# Altium footprint library freescale.PCBLIB: 12 footprints (part 2 of 2)
Each footprint in its own frame and in the unit in brackets; x right, y up, seen from the top. Pads: shape width x height; smd on the part's side, far side on the other; paste and mask are expansions set on the pad; w line width, h text height; cw(c..) or ccw(c..) is an arc to the next point about the centre after c.
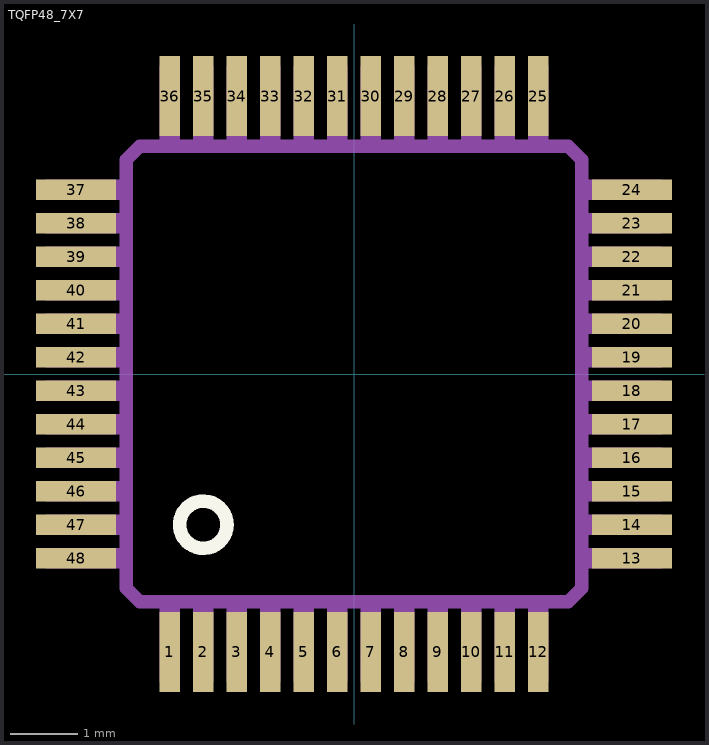
[diagram p1: the footprint, top view; thin cyan lines are the x and y axes]

## TQFP48_7X7 [mm]
pads (48):
  rect 0.3x1.2 smd: 1(-2.75,-4.15) 2(-2.25,-4.15) 3(-1.75,-4.15) 4(-1.25,-4.15) 5(-0.75,-4.15) 6(-0.25,-4.15) 7(0.25,-4.15) 8(0.75,-4.15) 9(1.25,-4.15) 10(1.75,-4.15) 11(2.25,-4.15) 12(2.75,-4.15) 25(2.75,4.15) 26(2.25,4.15) 27(1.75,4.15) 28(1.25,4.15) 29(0.75,4.15) 30(0.25,4.15) 31(-0.25,4.15) 32(-0.75,4.15) 33(-1.25,4.15) 34(-1.75,4.15) 35(-2.25,4.15) 36(-2.75,4.15)
  rect 1.2x0.3 smd: 13(4.15,-2.75) 14(4.15,-2.25) 15(4.15,-1.75) 16(4.15,-1.25) 17(4.15,-0.75) 18(4.15,-0.25) 19(4.15,0.25) 20(4.15,0.75) 21(4.15,1.25) 22(4.15,1.75) 23(4.15,2.25) 24(4.15,2.75) 37(-4.15,2.75) 38(-4.15,2.25) 39(-4.15,1.75) 40(-4.15,1.25) 41(-4.15,0.75) 42(-4.15,0.25) 43(-4.15,-0.25) 44(-4.15,-0.75) 45(-4.15,-1.25) 46(-4.15,-1.75) 47(-4.15,-2.25) 48(-4.15,-2.75)
Top Overlay:
  circle w0.203: c-2.25,-2.25 r0.353
Mechanical 16:
  rectangle: -2.9,-4.6 -2.6,-3.45
  rectangle: -2.4,-4.6 -2.1,-3.45
  rectangle: -1.9,-4.6 -1.6,-3.45
  rectangle: -1.4,-4.6 -1.1,-3.45
  rectangle: -0.9,-4.6 -0.6,-3.45
  rectangle: -0.4,-4.6 -0.1,-3.45
  rectangle: 0.1,-4.6 0.4,-3.45
  rectangle: 0.6,-4.6 0.9,-3.45
  rectangle: 1.1,-4.6 1.4,-3.45
  rectangle: 1.6,-4.6 1.9,-3.45
  rectangle: 2.1,-4.6 2.4,-3.45
  rectangle: 2.6,-4.6 2.9,-3.45
  rectangle: 3.45,-2.9 4.6,-2.6
  rectangle: 3.45,-2.4 4.6,-2.1
  rectangle: 3.45,-1.9 4.6,-1.6
  rectangle: 3.45,-1.4 4.6,-1.1
  rectangle: 3.45,-0.9 4.6,-0.6
  rectangle: 3.45,-0.4 4.6,-0.1
  rectangle: 3.45,0.1 4.6,0.4
  rectangle: 3.45,0.6 4.6,0.9
  rectangle: 3.45,1.1 4.6,1.4
  rectangle: 3.45,1.6 4.6,1.9
  rectangle: 3.45,2.1 4.6,2.4
  rectangle: 3.45,2.6 4.6,2.9
  rectangle: 2.6,3.45 2.9,4.6
  rectangle: 2.1,3.45 2.4,4.6
  rectangle: 1.6,3.45 1.9,4.6
  rectangle: 1.1,3.45 1.4,4.6
  rectangle: 0.6,3.45 0.9,4.6
  rectangle: 0.1,3.45 0.4,4.6
  rectangle: -0.4,3.45 -0.1,4.6
  rectangle: -0.9,3.45 -0.6,4.6
  rectangle: -1.4,3.45 -1.1,4.6
  rectangle: -1.9,3.45 -1.6,4.6
  rectangle: -2.4,3.45 -2.1,4.6
  rectangle: -2.9,3.45 -2.6,4.6
  rectangle: -4.6,2.6 -3.45,2.9
  rectangle: -4.6,2.1 -3.45,2.4
  rectangle: -4.6,1.6 -3.45,1.9
  rectangle: -4.6,1.1 -3.45,1.4
  rectangle: -4.6,0.6 -3.45,0.9
  rectangle: -4.6,0.1 -3.45,0.4
  rectangle: -4.6,-0.4 -3.45,-0.1
  rectangle: -4.6,-0.9 -3.45,-0.6
  rectangle: -4.6,-1.4 -3.45,-1.1
  rectangle: -4.6,-1.9 -3.45,-1.6
  rectangle: -4.6,-2.4 -3.45,-2.1
  rectangle: -4.6,-2.9 -3.45,-2.6
  lines w0.203: -3.4,-3.2 -3.4,3.2 -3.2,3.4 3.2,3.4 3.4,3.2 3.4,-3.2 3.2,-3.4 -3.2,-3.4 -3.4,-3.2